# EAGLE library part TL084IDR (library TL084IDR)
Quad High Slew Rate JFET-Input Operational Amplifier Source: Datasheet <http://www.ti.com/lit/ds/symlink/tl082.pdf>
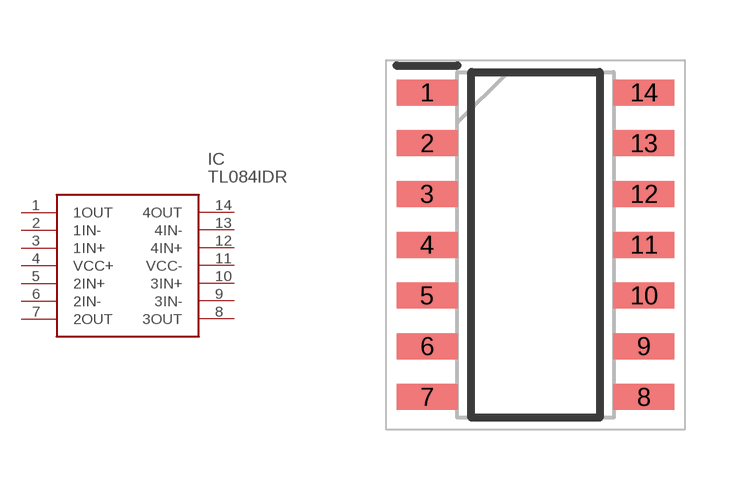
[diagram p0: symbol with the pads of SOIC127P600X175-14N; footprint SOIC127P600X175-14N]

Designator prefix IC

## TL084IDR (Arrow_Part_Number: TL084IDR; Arrow_Price-Stock: https://www.arrow.com/en/products/tl084idr/texas-instruments?region=nac; Description: Quad High Slew Rate JFET-Input Operational Amplifier; Height: 1.75mm; Manufacturer_Name: Texas Instruments; Manufacturer_Part_Number: TL084IDR; Mouser_Part_Number: 595-TL084IDR; Mouser_Price-Stock: https://www.mouser.co.uk/ProductDetail/Texas-Instruments/TL084IDR?qs=UGVLDq%2F29uhRaWn16yu8Iw%3D%3D)  [SOIC127P600X175-14N]
1  1OUT
2  1IN-
3  1IN+
4  VCC+
5  2IN+
6  2IN-
7  2OUT
8  3OUT
9  3IN-
10  3IN+
11  VCC-
12  4IN+
13  4IN-
14  4OUT

## Footprint SOIC127P600X175-14N (pad centres in mm)
D
smd 1.525 x 0.65: 1 -2.712,3.81; 2 -2.712,2.54; 3 -2.712,1.27; 4 -2.712,0; 5 -2.712,-1.27; 6 -2.712,-2.54; 7 -2.712,-3.81; 8 2.712,-3.81; 9 2.712,-2.54; 10 2.712,-1.27; 11 2.712,0; 12 2.712,1.27; 13 2.712,2.54; 14 2.712,3.81